# EAGLE library part T8 (library sjg-efinix)
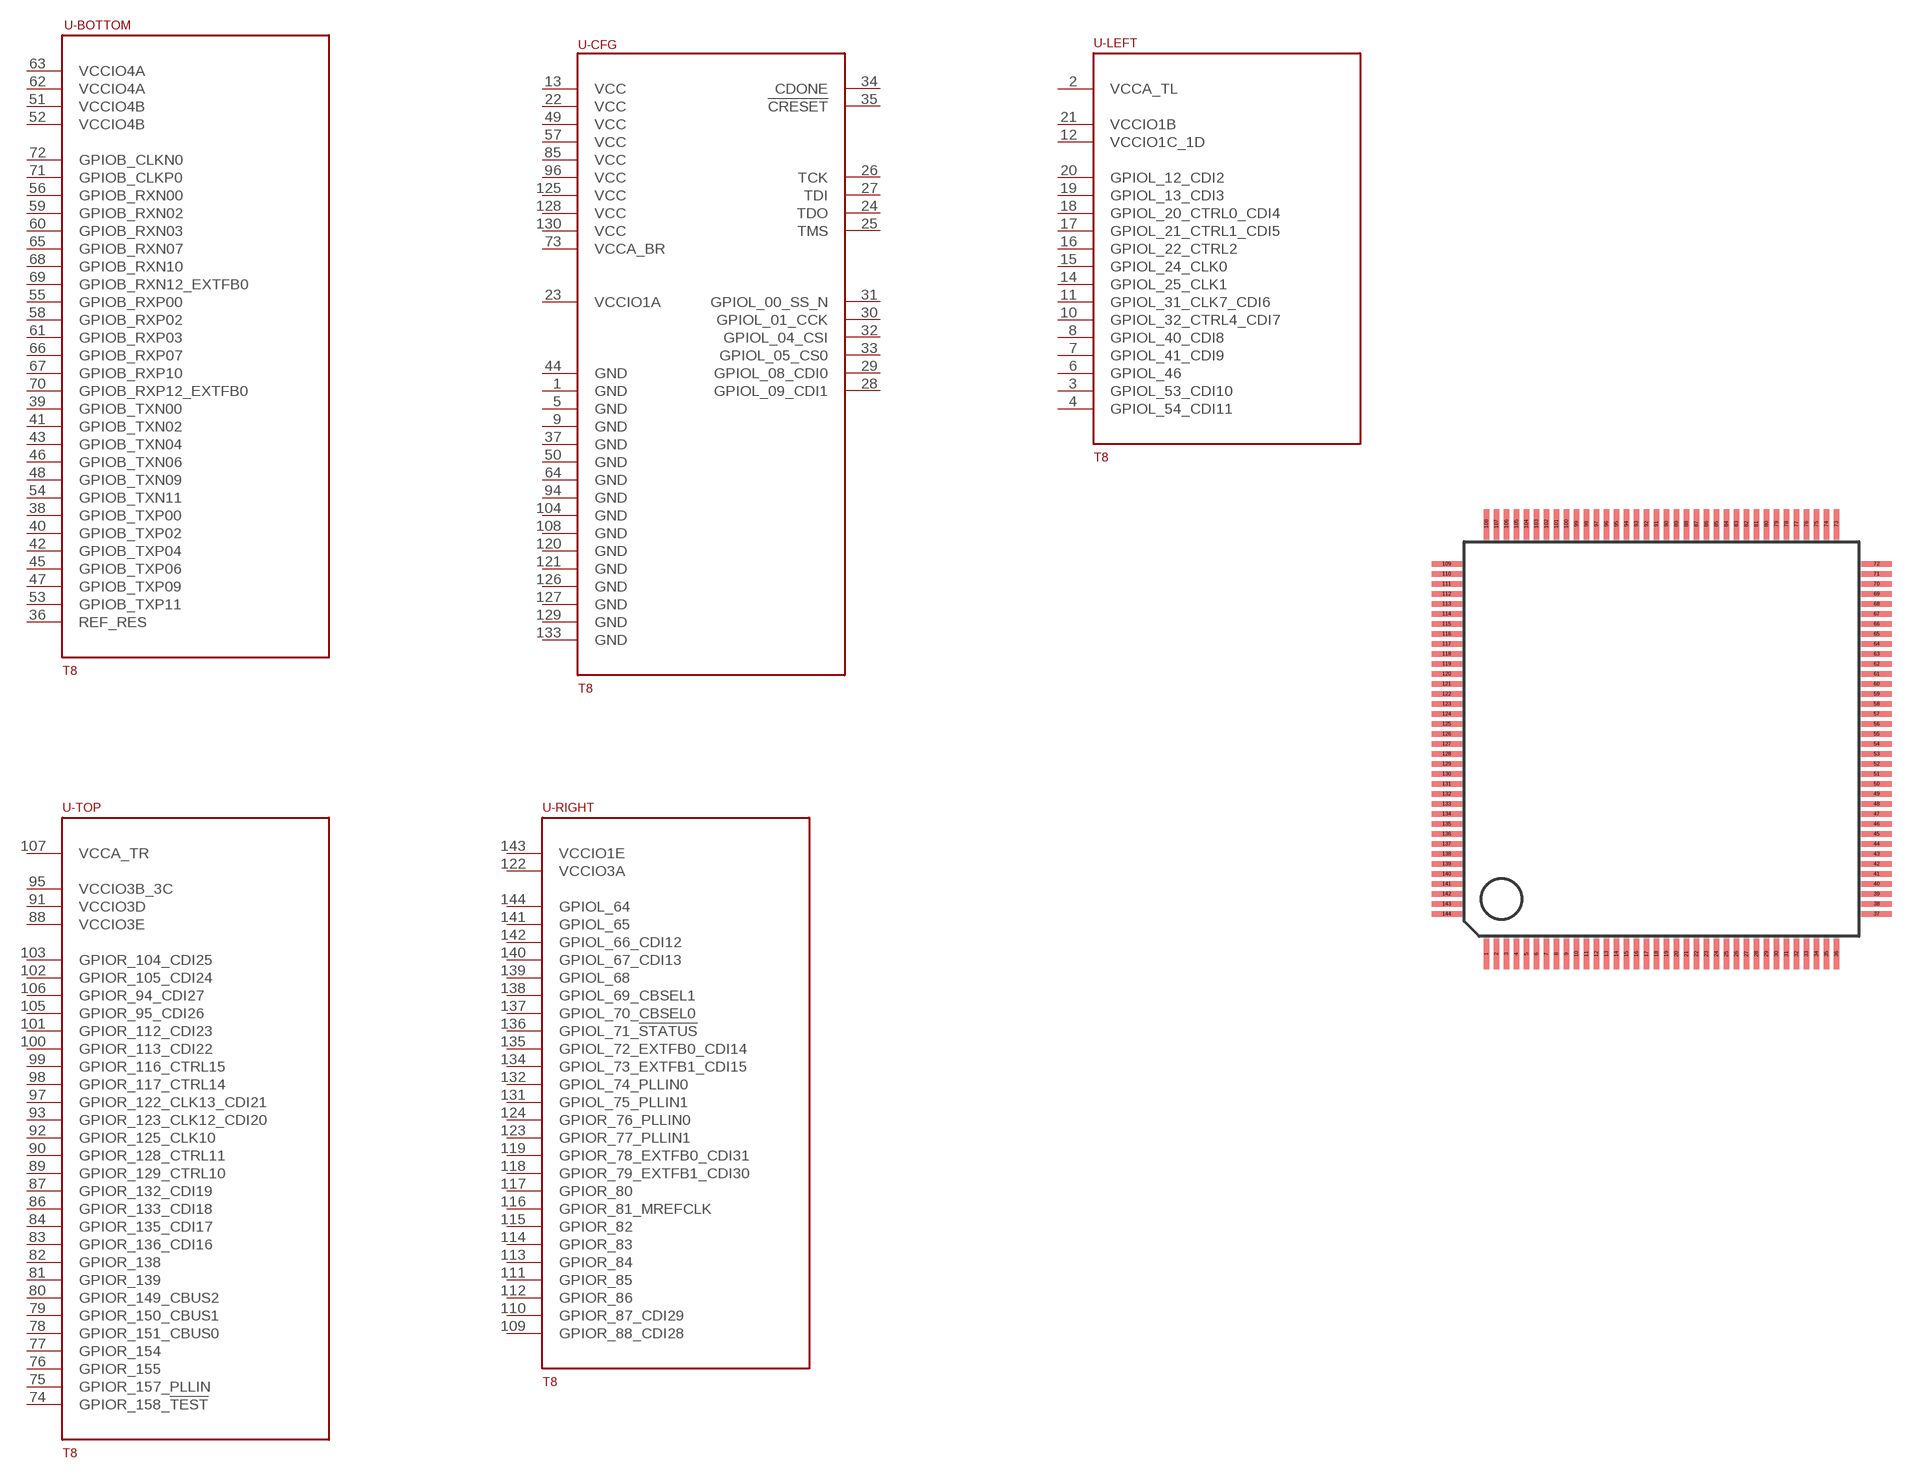
[diagram p0: symbol with the pads of TQFP144; footprint TQFP144]

Designator prefix -; gates -BOTTOM=EFINIX_T8_BOTTOM -CFG=EFINIX_T8_CFG -LEFT=EFINIX_T8_LEFT -TOP=EFINIX_T8_RIGHT -RIGHT=EFINIX_T8_TOP

## T8  [TQFP144]
1  -CFG:GND
2  -LEFT:VCCA_TL
3  -LEFT:GPIOL_53_CDI10
4  -LEFT:GPIOL_54_CDI11
5  -CFG:GND
6  -LEFT:GPIOL_46
7  -LEFT:GPIOL_41_CDI9
8  -LEFT:GPIOL_40_CDI8
9  -CFG:GND
10  -LEFT:GPIOL_32_CTRL4_CDI7
11  -LEFT:GPIOL_31_CLK7_CDI6
12  -LEFT:VCCIO1C_1D
13  -CFG:VCC
14  -LEFT:GPIOL_25_CLK1
15  -LEFT:GPIOL_24_CLK0
16  -LEFT:GPIOL_22_CTRL2
17  -LEFT:GPIOL_21_CTRL1_CDI5
18  -LEFT:GPIOL_20_CTRL0_CDI4
19  -LEFT:GPIOL_13_CDI3
20  -LEFT:GPIOL_12_CDI2
21  -LEFT:VCCIO1B
22  -CFG:VCC
23  -CFG:VCCIO1A
24  -CFG:TDO
25  -CFG:TMS
26  -CFG:TCK
27  -CFG:TDI
28  -CFG:GPIOL_09_CDI1
29  -CFG:GPIOL_08_CDI0
30  -CFG:GPIOL_01_CCK
31  -CFG:GPIOL_00_SS_N
32  -CFG:GPIOL_04_CSI
33  -CFG:GPIOL_05_CS0
34  -CFG:CDONE
35  -CFG:!CRESET!
36  -BOTTOM:REF_RES
37  -CFG:GND
38  -BOTTOM:GPIOB_TXP00
39  -BOTTOM:GPIOB_TXN00
40  -BOTTOM:GPIOB_TXP02
41  -BOTTOM:GPIOB_TXN02
42  -BOTTOM:GPIOB_TXP04
43  -BOTTOM:GPIOB_TXN04
44  -CFG:GND
45  -BOTTOM:GPIOB_TXP06
46  -BOTTOM:GPIOB_TXN06
47  -BOTTOM:GPIOB_TXP09
48  -BOTTOM:GPIOB_TXN09
49  -CFG:VCC
50  -CFG:GND
51  -BOTTOM:VCCIO4B
52  -BOTTOM:VCCIO4B
53  -BOTTOM:GPIOB_TXP11
54  -BOTTOM:GPIOB_TXN11
55  -BOTTOM:GPIOB_RXP00
56  -BOTTOM:GPIOB_RXN00
57  -CFG:VCC
58  -BOTTOM:GPIOB_RXP02
59  -BOTTOM:GPIOB_RXN02
60  -BOTTOM:GPIOB_RXN03
61  -BOTTOM:GPIOB_RXP03
62  -BOTTOM:VCCIO4A
63  -BOTTOM:VCCIO4A
64  -CFG:GND
65  -BOTTOM:GPIOB_RXN07
66  -BOTTOM:GPIOB_RXP07
67  -BOTTOM:GPIOB_RXP10
68  -BOTTOM:GPIOB_RXN10
69  -BOTTOM:GPIOB_RXN12_EXTFB0
70  -BOTTOM:GPIOB_RXP12_EXTFB0
71  -BOTTOM:GPIOB_CLKP0
72  -BOTTOM:GPIOB_CLKN0
73  -CFG:VCCA_BR
74  -TOP:GPIOR_158_!TEST!
75  -TOP:GPIOR_157_PLLIN
76  -TOP:GPIOR_155
77  -TOP:GPIOR_154
78  -TOP:GPIOR_151_CBUS0
79  -TOP:GPIOR_150_CBUS1
80  -TOP:GPIOR_149_CBUS2
81  -TOP:GPIOR_139
82  -TOP:GPIOR_138
83  -TOP:GPIOR_136_CDI16
84  -TOP:GPIOR_135_CDI17
85  -CFG:VCC
86  -TOP:GPIOR_133_CDI18
87  -TOP:GPIOR_132_CDI19
88  -TOP:VCCIO3E
89  -TOP:GPIOR_129_CTRL10
90  -TOP:GPIOR_128_CTRL11
91  -TOP:VCCIO3D
92  -TOP:GPIOR_125_CLK10
93  -TOP:GPIOR_123_CLK12_CDI20
94  -CFG:GND
95  -TOP:VCCIO3B_3C
96  -CFG:VCC
97  -TOP:GPIOR_122_CLK13_CDI21
98  -TOP:GPIOR_117_CTRL14
99  -TOP:GPIOR_116_CTRL15
100  -TOP:GPIOR_113_CDI22
101  -TOP:GPIOR_112_CDI23
102  -TOP:GPIOR_105_CDI24
103  -TOP:GPIOR_104_CDI25
104  -CFG:GND
105  -TOP:GPIOR_95_CDI26
106  -TOP:GPIOR_94_CDI27
107  -TOP:VCCA_TR
108  -CFG:GND
109  -RIGHT:GPIOR_88_CDI28
110  -RIGHT:GPIOR_87_CDI29
111  -RIGHT:GPIOR_85
112  -RIGHT:GPIOR_86
113  -RIGHT:GPIOR_84
114  -RIGHT:GPIOR_83
115  -RIGHT:GPIOR_82
116  -RIGHT:GPIOR_81_MREFCLK
117  -RIGHT:GPIOR_80
118  -RIGHT:GPIOR_79_EXTFB1_CDI30
119  -RIGHT:GPIOR_78_EXTFB0_CDI31
120  -CFG:GND
121  -CFG:GND
122  -RIGHT:VCCIO3A
123  -RIGHT:GPIOR_77_PLLIN1
124  -RIGHT:GPIOR_76_PLLIN0
125  -CFG:VCC
126  -CFG:GND
127  -CFG:GND
128  -CFG:VCC
129  -CFG:GND
130  -CFG:VCC
131  -RIGHT:GPIOL_75_PLLIN1
132  -RIGHT:GPIOL_74_PLLIN0
133  -CFG:GND
134  -RIGHT:GPIOL_73_EXTFB1_CDI15
135  -RIGHT:GPIOL_72_EXTFB0_CDI14
136  -RIGHT:GPIOL_71_!STATUS!
137  -RIGHT:GPIOL_70_CBSEL0
138  -RIGHT:GPIOL_69_CBSEL1
139  -RIGHT:GPIOL_68
140  -RIGHT:GPIOL_67_CDI13
141  -RIGHT:GPIOL_65
142  -RIGHT:GPIOL_66_CDI12
143  -RIGHT:VCCIO1E
144  -RIGHT:GPIOL_64

## Footprint TQFP144 (pad centres in mm)
Thin Quad Flat Pack
smd 0.27 x 1.5: 1 -8.75,-10.75; 2 -8.25,-10.75; 3 -7.75,-10.75; 4 -7.25,-10.75; 5 -6.75,-10.75; 6 -6.25,-10.75; 7 -5.75,-10.75; 8 -5.25,-10.75; 9 -4.75,-10.75; 10 -4.25,-10.75; 11 -3.75,-10.75; 12 -3.25,-10.75; 13 -2.75,-10.75; 14 -2.25,-10.75; 15 -1.75,-10.75; 16 -1.25,-10.75; 17 -0.75,-10.75; 18 -0.25,-10.75; 19 0.25,-10.75; 20 0.75,-10.75; 21 1.25,-10.75; 22 1.75,-10.75; 23 2.25,-10.75; 24 2.75,-10.75; 25 3.25,-10.75; 26 3.75,-10.75; 27 4.25,-10.75; 28 4.75,-10.75; 29 5.25,-10.75; 30 5.75,-10.75; 31 6.25,-10.75; 32 6.75,-10.75; 33 7.25,-10.75; 34 7.75,-10.75; 35 8.25,-10.75; 36 8.75,-10.75; 73 8.75,10.75; 74 8.25,10.75; 75 7.75,10.75; 76 7.25,10.75; 77 6.75,10.75; 78 6.25,10.75; 79 5.75,10.75; 80 5.25,10.75; 81 4.75,10.75; 82 4.25,10.75; 83 3.75,10.75; 84 3.25,10.75; 85 2.75,10.75; 86 2.25,10.75; 87 1.75,10.75; 88 1.25,10.75; 89 0.75,10.75; 90 0.25,10.75; 91 -0.25,10.75; 92 -0.75,10.75; 93 -1.25,10.75; 94 -1.75,10.75; 95 -2.25,10.75; 96 -2.75,10.75; 97 -3.25,10.75; 98 -3.75,10.75; 99 -4.25,10.75; 100 -4.75,10.75; 101 -5.25,10.75; 102 -5.75,10.75; 103 -6.25,10.75; 104 -6.75,10.75; 105 -7.25,10.75; 106 -7.75,10.75; 107 -8.25,10.75; 108 -8.75,10.75
smd 1.5 x 0.27: 37 10.75,-8.75; 38 10.75,-8.25; 39 10.75,-7.75; 40 10.75,-7.25; 41 10.75,-6.75; 42 10.75,-6.25; 43 10.75,-5.75; 44 10.75,-5.25; 45 10.75,-4.75; 46 10.75,-4.25; 47 10.75,-3.75; 48 10.75,-3.25; 49 10.75,-2.75; 50 10.75,-2.25; 51 10.75,-1.75; 52 10.75,-1.25; 53 10.75,-0.75; 54 10.75,-0.25; 55 10.75,0.25; 56 10.75,0.75; 57 10.75,1.25; 58 10.75,1.75; 59 10.75,2.25; 60 10.75,2.75; 61 10.75,3.25; 62 10.75,3.75; 63 10.75,4.25; 64 10.75,4.75; 65 10.75,5.25; 66 10.75,5.75; 67 10.75,6.25; 68 10.75,6.75; 69 10.75,7.25; 70 10.75,7.75; 71 10.75,8.25; 72 10.75,8.75; 109 -10.75,8.75; 110 -10.75,8.25; 111 -10.75,7.75; 112 -10.75,7.25; 113 -10.75,6.75; 114 -10.75,6.25; 115 -10.75,5.75; 116 -10.75,5.25; 117 -10.75,4.75; 118 -10.75,4.25; 119 -10.75,3.75; 120 -10.75,3.25; 121 -10.75,2.75; 122 -10.75,2.25; 123 -10.75,1.75; 124 -10.75,1.25; 125 -10.75,0.75; 126 -10.75,0.25; 127 -10.75,-0.25; 128 -10.75,-0.75; 129 -10.75,-1.25; 130 -10.75,-1.75; 131 -10.75,-2.25; 132 -10.75,-2.75; 133 -10.75,-3.25; 134 -10.75,-3.75; 135 -10.75,-4.25; 136 -10.75,-4.75; 137 -10.75,-5.25; 138 -10.75,-5.75; 139 -10.75,-6.25; 140 -10.75,-6.75; 141 -10.75,-7.25; 142 -10.75,-7.75; 143 -10.75,-8.25; 144 -10.75,-8.75